# Altium schematic symbol library SVN_lib.SchLib: 165 symbols (part 2 of 2)
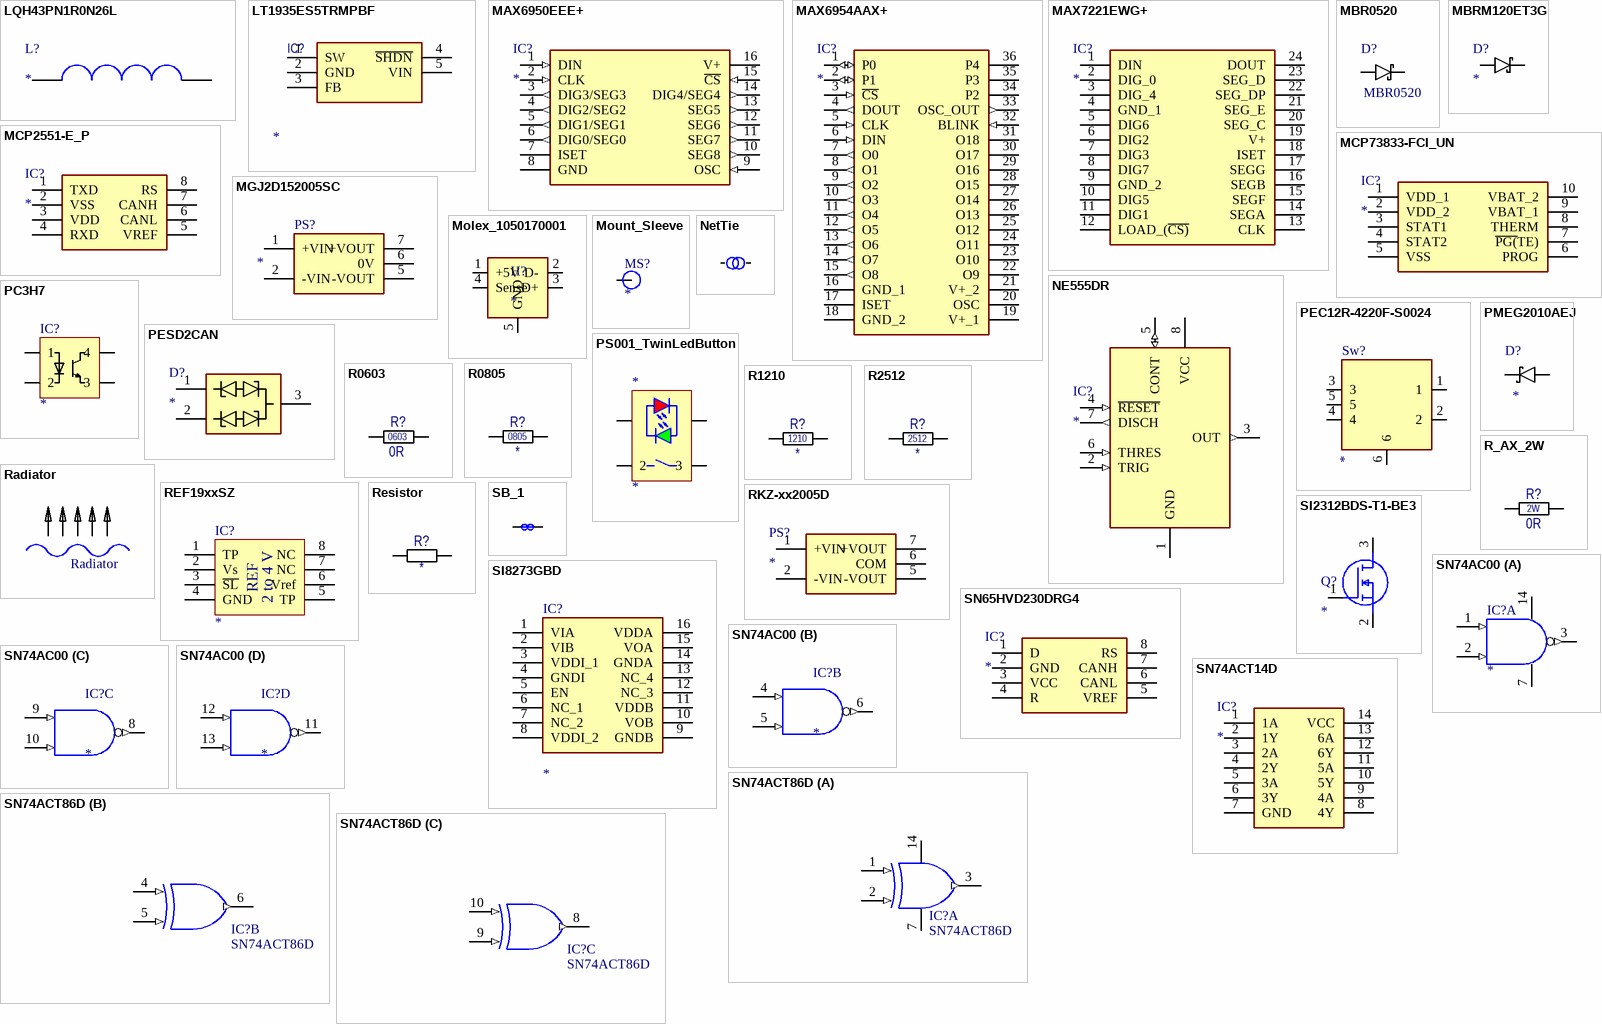
[diagram p6: symbols LQH43PN1R0N26L to SN74ACT86D]

## PESD2CAN
designator D?
PESD2CAN / CAN bus ESD protection diode; Manufacturer_Name: Nexperia; Manufacturer_Part_Number: PESD2CAN,215; Datasheet Link: http://de.rs-online.com/webdocs/0b4d/0900766b80b4dbb6.pdf; Height: 1.1mm; Mouser Part Number: 771-PESD2CAN-T/R; Mouser Price/Stock: https://www.mouser.co.uk/ProductDetail/Nexperia/PESD2CAN215?qs=LOCUfHb8d9sqg7TaLUP2JQ%3D%3D; Arrow Part Number: PESD2CAN,215; Arrow Price/Stock: https://www.arrow.com/en/products/pesd2can215/nexperia?region=nac
footprint SOT96P237X111-3N
pins: 1 CATHODE_1, 2 CATHODE_2, 3 COMMON_CATHODE

## PMEG2010AEJ
designator D?
Schottky Diode; Manufacturer_Name: Nexperia; Manufacturer_Part_Number: PMEG2010AEJ; Datasheet Link: https://datasheet.datasheetarchive.com/originals/distributors/Datasheets-20/DSA-380125.pdf; Height: 0.8mm; Mouser Part Number: N/A; Mouser Price/Stock: https://www.mouser.com/Search/Refine.aspx?Keyword=N%2FA
footprint SOD2512X80N
pins: 1 K, 2 A

## PS001_TwinLedButton
designator *
footprint PS001_TwinLedButton
pins: + 1, - 4, S 2, w 3

## R0603
designator R?, comment 0R
Resistor; Value: 0R; 0.1W: *
footprint R_0603 (Chip Resistor, EIA 0201, Metric 0603, Body 0.6 x 0.3mm, IPC Medium Density)
pins: 1, 2
1 alternate drawing of the same symbol
text: 0603

## R0805
designator R?
Resistor; Value: 0R; 0.1W: *
footprint R_0805 (Chip Resistor, EIA 0201, Metric 0603, Body 0.6 x 0.3mm, IPC Medium Density)
pins: 1, 2
1 alternate drawing of the same symbol
text: 0805

## R1210
designator R?
Resistor; Value: 0R; 0.1W: *
footprint R_1210(3532)
pins: 1, 2
1 alternate drawing of the same symbol
text: 1210

## R2512
designator R?
Resistor; Value: 0R; 0.1W: *
footprint R_2512(6232)
pins: 1, 2
1 alternate drawing of the same symbol
text: 2512

## R_AX_2W
designator R?, comment 0R
Resistor; 0.1W: *
footprint R_AX_2W_18mm
pins: 1, 2
1 alternate drawing of the same symbol
text: 2W

## Radiator
designator *
footprint Radiator-40x20x40
footprint Radiator-F_SK_489 (x100mm)

## REF19xxSZ
designator IC?
REF19xxS Voltage Reference, 2.048 to 4.096 Vout, Analog Devices
footprint SOIC127P600X175-8N
pins: 1 TP, 2 Vs, 3 ~{SL}, 4 GND, 5 TP, 6 Vref, 7 NC, 8 NC
1 alternate drawing of the same symbol
text: REF; 2 to 4 V

## Resistor
designator R?
Resistor; Value: *; 0.1W: *
footprint R_0603 (Chip Resistor, EIA 0201, Metric 0603, Body 0.6 x 0.3mm, IPC Medium Density)
pins: 1, 2
7 alternate drawings of the same symbol

## RKZ-xx2005D
designator PS?
The RKZ-xx2005D series features DC/DC converters which are especially designed for SiC mosfet / drivers. The modules are available with input voltages of 5, 12, 15, or 24VDC with two / asymmetric outputs of +20VDC and -5VDC. A special feature of this converter is output power / sharing: the RKZ-xx2005D can be used with equal power (asymmetrical current) or equal current / (asymmetrical power) loads. The modules offer 3kVDC or 4kVDC isolation. The operating / temperature range of -40C to +100°C (with derating) meets harsh environmental requirements.; Manufacturer_Name: RECOM Power; Manufacturer_Part_Number: RKZ-152005D; Datasheet Link: https://www.recom-power.com/pdf/Econoline/RKZ-xx2005D.pdf; Height: 10.7mm; Mouser Part Number: 919-RKZ-152005D; Mouser Price/Stock: https://www.mouser.com/Search/Refine.aspx?Keyword=919-RKZ-152005D; Arrow Part Number: RKZ-152005D; Arrow Price/Stock: http://www.arrow.com/en/products/rkz-152005d/recom
footprint RKZxx2005D (20/-5 DCDC)
pins: 1 +VIN, 2 -VIN, 5 -VOUT, 6 COM, 7 +VOUT

## SB_1
designator SB?  (value not drawn)  (net tie, no BOM)
footprint SB_1(E)
footprint SB_1(CO)
footprint SB_1(>>)
footprint NetTie
pins: 1, 2
1 alternate drawing of the same symbol

## SI2312BDS-T1-BE3
designator Q?
MOSFET (N-Channel); Manufacturer_Name: Vishay; Manufacturer_Part_Number: SI2312BDS-T1-BE3; Datasheet Link: https://www.mouser.in/datasheet/2/427/VISH_S_A0010924773_1-2571514.pdf; Height: 1.12mm; Mouser Part Number: 78-SI2312BDS-T1-BE3; Mouser Price/Stock: https://www.mouser.co.uk/ProductDetail/Vishay-Siliconix/SI2312BDS-T1-BE3?qs=CiayqK2gdcLWl7ngxjbeYA%3D%3D; Arrow Part Number: SI2312BDS-T1-BE3; Arrow Price/Stock: https://www.arrow.com/en/products/si2312bds-t1-be3/vishay?region=nac
footprint SOT95P237X112-3N
pins: 1 G, 2 S, 3 D

## SI8273GBD
designator IC?
Integrated Circuit; Manufacturer_Name: Silicon Labs; Manufacturer_Part_Number: SI8273GBD-IS1; Datasheet Link: https://www.silabs.com/documents/public/data-sheets/Si827x.pdf; Height: 1.75mm; Mouser Part Number: 634-SI8273GBD-IS1; Mouser Price/Stock: https://www.mouser.co.uk/ProductDetail/Silicon-Labs/SI8273GBD-IS1?qs=j6MGy4L9yX191qwyJw3Utg%3D%3D; Arrow Part Number: SI8273GBD-IS1; Arrow Price/Stock: https://www.arrow.com/en/products/si8273gbd-is1/silicon-labs
footprint SOIC127P600X175-16N
pins: 1 VIA, 2 VIB, 3 VDDI_1, 4 GNDI, 5 EN, 6 NC_1, 7 NC_2, 8 VDDI_2, 9 GNDB, 10 VOB, 11 VDDB, 12 NC_3, 13 NC_4, 14 GNDA, 15 VOA, 16 VDDA

## SN65HVD230DRG4
designator IC?
3.3 V CAN Transceiver with Standby Mode 8-SOIC -40 to 85; Manufacturer_Name: Texas Instruments; Manufacturer_Part_Number: SN65HVD230DRG4; Datasheet Link: http://www.ti.com/general/docs/suppproductinfo.tsp?distId=10&gotoUrl=http%3A%2F%2Fwww.ti.com%2Flit%2Fgpn%2Fsn65hvd230; Height: 1.75mm; Mouser Part Number: 595-SN65HVD230DRG4; Mouser Price/Stock: https://www.mouser.co.uk/ProductDetail/Texas-Instruments/SN65HVD230DRG4/?qs=QViXGNcIEAvg9uZlAursSA%3D%3D; Arrow Part Number: SN65HVD230DRG4; Arrow Price/Stock: https://www.arrow.com/en/products/sn65hvd230drg4/texas-instruments
footprint SOIC127P600X175-8N
pins: 1 D, 2 GND, 3 VCC, 4 R, 5 VREF, 6 CANL, 7 CANH, 8 RS

## SN74AC00
designator IC?
AC00 devices contain four independent 2-input NAND gates; Manufacturer_Name: Texas Instruments; Manufacturer_Part_Number: SN74AC00PWE4; Datasheet Link: https://www.ti.com/lit/gpn/sn74ac00; Height: 1.2mm; Mouser Part Number: 595-SN74AC00PWE4; Mouser Price/Stock: https://www.mouser.co.uk/ProductDetail/Texas-Instruments/SN74AC00PWE4?qs=pdM4geFiyZSDjwSj6QGp9A%3D%3D; Arrow Part Number: SN74AC00PWE4; Arrow Price/Stock: https://www.arrow.com/en/products/sn74ac00pwe4/texas-instruments
footprint SOP65P640X120-14N
part A pins: 1 A (in), 2 B (in), 3 ~{O} (out), 7 GND (power), 14 VCC (power)
part B pins: 4 A (in), 5 B (in), 6 ~{O} (out)
part C pins: 8 ~{O} (out), 9 A (in), 10 B (in)
part D pins: 11 ~{O} (out), 12 A (in), 13 B (in)

## SN74ACT14D
designator IC?
Integrated Circuit; Manufacturer_Name: Texas Instruments; Manufacturer_Part_Number: SN74ACT14D; Datasheet Link: http://www.ti.com/lit/ds/symlink/sn74act14.pdf; Height: 1.75mm; Mouser Part Number: 595-SN74ACT14D; Mouser Price/Stock: https://www.mouser.co.uk/ProductDetail/Texas-Instruments/SN74ACT14D?qs=dQbkqP7qjaaVN%252BaQ1SflpA%3D%3D; Arrow Part Number: SN74ACT14D; Arrow Price/Stock: https://www.arrow.com/en/products/sn74act14d/texas-instruments
footprint SOIC127P600X175-14N
pins: 1 1A, 2 1Y, 3 2A, 4 2Y, 5 3A, 6 3Y, 7 GND, 8 4Y, 9 4A, 10 5Y, 11 5A, 12 6Y, 13 6A, 14 VCC

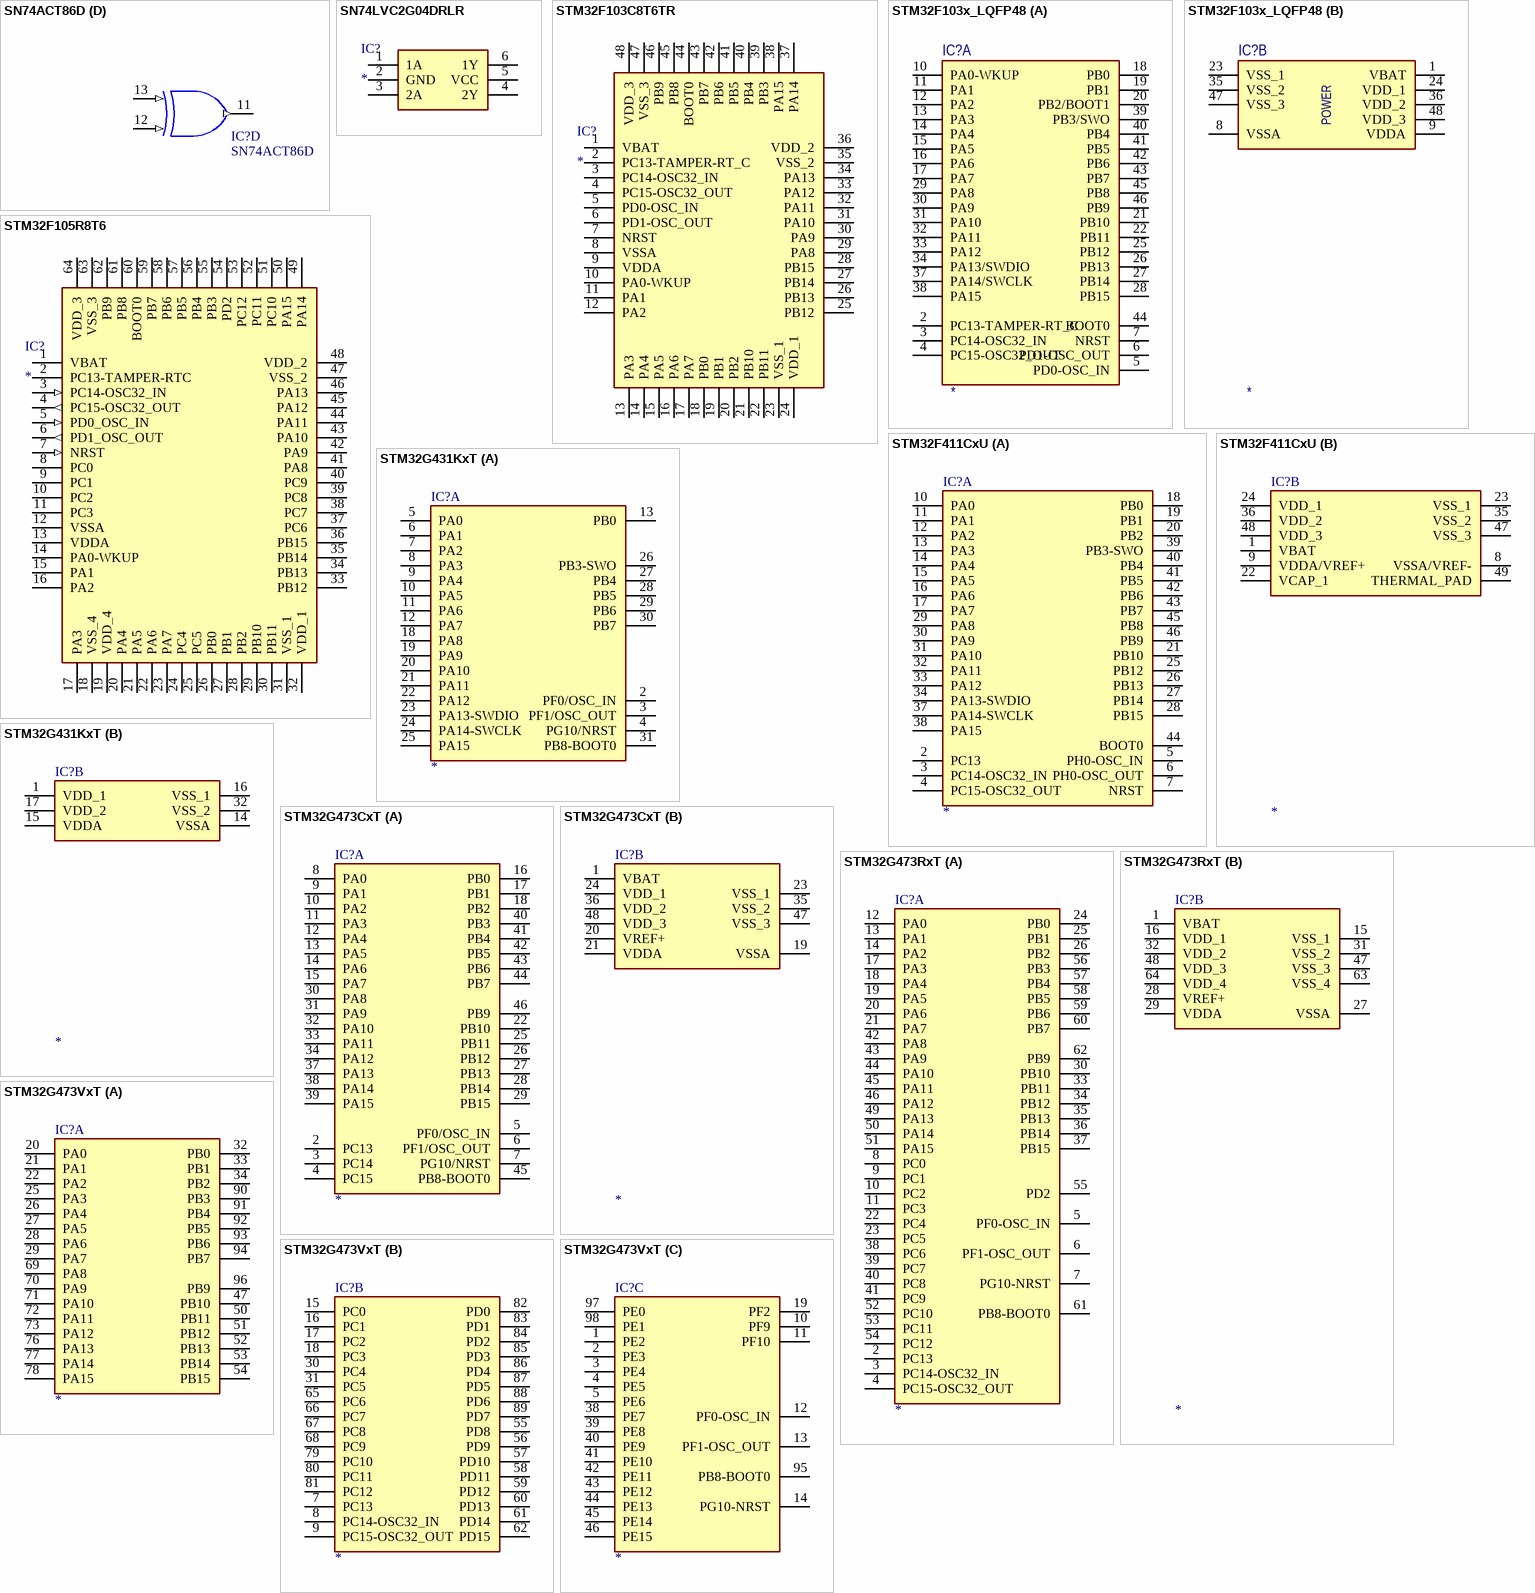
[diagram p4: symbols SN74ACT86D to STM32G473VxT]

## SN74ACT86D
designator IC?
ACT86 devices are quadruple 2-input exclusive-OR gates; Part Description: Quadruple 2-Input Positive-NAND Gates; Manufacturer: TEXAS INSTRUMENTS; Manufacturer Part Number: SN74AC00PW; Table: Standard Logic; Part Number: SN74ACT86D; Component Kind: Standard; Component Type: Standard; Device: SN74ACT86D; Footprint: SOP65P640X120-14N; PackageDescription: SOP, 14-Leads, Body 5.1x4.5mm (max), Pitch 0.65mm, IPC Medium Density; Pin Count: 14; Case: TSSOP14; Mounted: Yes; Socket: No; SMD: Yes; ComponentHeight: 1.2mm; Author: CERN DEM JLC; HelpURL: \\cern.ch\dfs\Applications\Altium\Datasheets\SN74AC00PW.pdf; CreateDate: 18.12.2013; LatestRevisionDate: 18.12.2013
footprint SOIC127P600X175-14N
part A pins: 1 A (in), 2 B (in), 3 ~{O} (out), 7 GND (power), 14 VCC (power)
part B pins: 4 A (in), 5 B (in), 6 ~{O} (out)
part C pins: 8 ~{O} (out), 9 B (in), 10 A (in)
part D pins: 11 ~{O} (out), 12 B (in), 13 A (in)

## SN74LVC2G04DRLR
designator IC?
2-ch, 1.65-V to 5.5-V inverters; Manufacturer_Name: Texas Instruments; Manufacturer_Part_Number: SN74LVC2G04DRLR; Datasheet Link: http://www.ti.com/lit/gpn/sn74lvc2g04; Height: 0.6mm; Mouser Part Number: 595-SN74LVC2G04DRLR; Mouser Price/Stock: https://www.mouser.co.uk/ProductDetail/Texas-Instruments/SN74LVC2G04DRLR?qs=pajgIaoyDUgGT9cUBVgEUw%3D%3D; Arrow Part Number: SN74LVC2G04DRLR; Arrow Price/Stock: https://www.arrow.com/en/products/sn74lvc2g04drlr/texas-instruments
footprint SOTFL50P160X60-6N
footprint SOT23-6
pins: 1 1A, 2 GND, 3 2A, 4 2Y, 5 VCC, 6 1Y
1 alternate drawing of the same symbol

## STM32F103C8T6TR
designator IC?
Integrated Circuit; Manufacturer_Name: STMicroelectronics; Manufacturer_Part_Number: STM32F103C8T6TR; Datasheet Link: http://media.digikey.com/pdf/Data%20Sheets/ST%20Microelectronics%20PDFS/STM32F103x8,B.pdf; Height: 1.6mm; Mouser Part Number: 511-STM32F103C8T6TR; Mouser Price/Stock: https://www.mouser.co.uk/ProductDetail/STMicroelectronics/STM32F103C8T6TR?qs=5HwTSiuA5HDxFj62n06yag%3D%3D; Arrow Part Number: STM32F103C8T6TR; Arrow Price/Stock: https://www.arrow.com/en/products/stm32f103c8t6tr/stmicroelectronics
footprint QFP50P900X900X160-48N
pins: 1 VBAT, 2 PC13-TAMPER-RT_C, 3 PC14-OSC32_IN, 4 PC15-OSC32_OUT, 5 PD0-OSC_IN, 6 PD1-OSC_OUT, 7 NRST, 8 VSSA, 9 VDDA, 10 PA0-WKUP, 11 PA1, 12 PA2, 13 PA3, 14 PA4, 15 PA5, 16 PA6, 17 PA7, 18 PB0, 19 PB1, 20 PB2, 21 PB10, 22 PB11, 23 VSS_1, 24 VDD_1, 25 PB12, 26 PB13, 27 PB14, 28 PB15, 29 PA8, 30 PA9, 31 PA10, 32 PA11, 33 PA12, 34 PA13, 35 VSS_2, 36 VDD_2, 37 PA14, 38 PA15, 39 PB3, 40 PB4, 41 PB5, 42 PB6, 43 PB7, 44 BOOT0, 45 PB8, 46 PB9, 47 VSS_3, 48 VDD_3
1 alternate drawing of the same symbol

## STM32F103x_LQFP48
designator IC?
footprint QFP50P900X900X160-48N
part A pins: 2 PC13-TAMPER-RT_C, 3 PC14-OSC32_IN, 4 PC15-OSC32_OUT, 5 PD0-OSC_IN, 6 PD1-OSC_OUT, 7 NRST, 10 PA0-WKUP, 11 PA1, 12 PA2, 13 PA3, 14 PA4, 15 PA5, 16 PA6, 17 PA7, 18 PB0, 19 PB1, 20 PB2/BOOT1, 21 PB10, 22 PB11, 25 PB12, 26 PB13, 27 PB14, 28 PB15, 29 PA8, 30 PA9, 31 PA10, 32 PA11, 33 PA12, 34 PA13/SWDIO, 37 PA14/SWCLK, 38 PA15, 39 PB3/SWO, 40 PB4, 41 PB5, 42 PB6, 43 PB7, 44 BOOT0, 45 PB8, 46 PB9
part B pins: 1 VBAT, 8 VSSA, 9 VDDA, 23 VSS_1, 24 VDD_1, 35 VSS_2, 36 VDD_2, 47 VSS_3, 48 VDD_3
part B text: POWER

## STM32F105R8T6
designator IC?
Integrated Circuit; Manufacturer_Name: STMicroelectronics; Manufacturer_Part_Number: STM32F105R8T6; Datasheet Link: http://www.st.com/st-web-ui/static/active/en/resource/technical/document/datasheet/CD00220364.pdf; Height: 1.6mm; Mouser Part Number: 511-STM32F105R8T6; Mouser Price/Stock: https://www.mouser.co.uk/ProductDetail/STMicroelectronics/STM32F105R8T6/?qs=1XJIe8X6XT24MwoK4mjh%2Fg%3D%3D; Arrow Part Number: STM32F105R8T6; Arrow Price/Stock: https://www.arrow.com/en/products/stm32f105r8t6/stmicroelectronics
footprint QFP50P1200X1200X160-64N
pins: 1 VBAT, 2 PC13-TAMPER-RTC, 3 PC14-OSC32_IN (in), 4 PC15-OSC32_OUT (out), 5 PD0_OSC_IN (in), 6 PD1_OSC_OUT (out), 7 NRST (in), 8 PC0, 9 PC1, 10 PC2, 11 PC3, 12 VSSA (power), 13 VDDA (power), 14 PA0-WKUP, 15 PA1, 16 PA2, 17 PA3, 18 VSS_4 (power), 19 VDD_4 (power), 20 PA4, 21 PA5, 22 PA6, 23 PA7, 24 PC4, 25 PC5, 26 PB0, 27 PB1, 28 PB2, 29 PB10, 30 PB11, 31 VSS_1 (power), 32 VDD_1 (power), 33 PB12, 34 PB13, 35 PB14, 36 PB15, 37 PC6, 38 PC7, 39 PC8, 40 PC9, 41 PA8, 42 PA9, 43 PA10, 44 PA11, 45 PA12, 46 PA13, 47 VSS_2 (power), 48 VDD_2 (power), 49 PA14, 50 PA15, 51 PC10, 52 PC11, 53 PC12, 54 PD2, 55 PB3, 56 PB4, 57 PB5, 58 PB6, 59 PB7, 60 BOOT0, 61 PB8, 62 PB9, 63 VSS_3 (power), 64 VDD_3 (power)

## STM32F411CxU
designator IC?
Integrated Circuit; Manufacturer_Name: STMicroelectronics; Manufacturer_Part_Number: STM32F411CEU6; Datasheet Link: http://www.st.com/content/ccc/resource/technical/document/datasheet/b3/a5/46/3b/b4/e5/4c/85/DM00115249.pdf/files/DM00115249.pdf/jcr:content/translations/en.DM00115249.pdf; Height: 0.6mm; Mouser Part Number: 511-STM32F411CEU6; Mouser Price/Stock: https://www.mouser.co.uk/ProductDetail/STMicroelectronics/STM32F411CEU6?qs=pjMTYa9MTGV3ou31YBFa3g%3D%3D; Arrow Part Number: STM32F411CEU6; Arrow Price/Stock: https://www.arrow.com/en/products/stm32f411ceu6/stmicroelectronics?utm_currency=USD&region=nac
footprint UFQFPN48-49N-D
part A pins: 2 PC13, 3 PC14-OSC32_IN, 4 PC15-OSC32_OUT, 5 PH0-OSC_IN, 6 PH0-OSC_OUT, 7 NRST, 10 PA0, 11 PA1, 12 PA2, 13 PA3, 14 PA4, 15 PA5, 16 PA6, 17 PA7, 18 PB0, 19 PB1, 20 PB2, 21 PB10, 25 PB12, 26 PB13, 27 PB14, 28 PB15, 29 PA8, 30 PA9, 31 PA10, 32 PA11, 33 PA12, 34 PA13-SWDIO, 37 PA14-SWCLK, 38 PA15, 39 PB3-SWO, 40 PB4, 41 PB5, 42 PB6, 43 PB7, 44 BOOT0, 45 PB8, 46 PB9
part B pins: 1 VBAT, 8 VSSA/VREF-, 9 VDDA/VREF+, 22 VCAP_1, 23 VSS_1, 24 VDD_1, 35 VSS_2, 36 VDD_2, 47 VSS_3, 48 VDD_3, 49 THERMAL_PAD

## STM32G431KxT
designator IC?
Integrated Circuit; Manufacturer_Name: STMicroelectronics; Manufacturer_Part_Number: STM32G473CCT3; Datasheet Link: https://cz.mouser.com/datasheet/2/389/dm00528822-1799294.pdf; Height: 1.6mm; Mouser Part Number: 511-STM32G473CCT3; Mouser Price/Stock: https://www.mouser.co.uk/ProductDetail/STMicroelectronics/STM32G473CCT3?qs=sPbYRqrBIVmZ4FukD7XWCg%3D%3D
footprint LQFP32-32N_STM
part A pins: 2 PF0/OSC_IN, 3 PF1/OSC_OUT, 4 PG10/NRST, 5 PA0, 6 PA1, 7 PA2, 8 PA3, 9 PA4, 10 PA5, 11 PA6, 12 PA7, 13 PB0, 18 PA8, 19 PA9, 20 PA10, 21 PA11, 22 PA12, 23 PA13-SWDIO, 24 PA14-SWCLK, 25 PA15, 26 PB3-SWO, 27 PB4, 28 PB5, 29 PB6, 30 PB7, 31 PB8-BOOT0
part B pins: 1 VDD_1, 14 VSSA, 15 VDDA, 16 VSS_1, 17 VDD_2, 32 VSS_2

## STM32G473CxT
designator IC?
Integrated Circuit; Manufacturer_Name: STMicroelectronics; Manufacturer_Part_Number: STM32G473CCT3; Datasheet Link: https://cz.mouser.com/datasheet/2/389/dm00528822-1799294.pdf; Height: 1.6mm; Mouser Part Number: 511-STM32G473CCT3; Mouser Price/Stock: https://www.mouser.co.uk/ProductDetail/STMicroelectronics/STM32G473CCT3?qs=sPbYRqrBIVmZ4FukD7XWCg%3D%3D
footprint QFP50P900X900X160-48N
footprint LQFP48-48N_STM
part A pins: 2 PC13, 3 PC14, 4 PC15, 5 PF0/OSC_IN, 6 PF1/OSC_OUT, 7 PG10/NRST, 8 PA0, 9 PA1, 10 PA2, 11 PA3, 12 PA4, 13 PA5, 14 PA6, 15 PA7, 16 PB0, 17 PB1, 18 PB2, 22 PB10, 25 PB11, 26 PB12, 27 PB13, 28 PB14, 29 PB15, 30 PA8, 31 PA9, 32 PA10, 33 PA11, 34 PA12, 37 PA13, 38 PA14, 39 PA15, 40 PB3, 41 PB4, 42 PB5, 43 PB6, 44 PB7, 45 PB8-BOOT0, 46 PB9
part B pins: 1 VBAT, 19 VSSA, 20 VREF+, 21 VDDA, 23 VSS_1, 24 VDD_1, 35 VSS_2, 36 VDD_2, 47 VSS_3, 48 VDD_3

## STM32G473RxT
designator IC?
Integrated Circuit; Manufacturer_Name: STMicroelectronics; Manufacturer_Part_Number: STM32G473RET6; Datasheet Link: https://www.st.com/resource/en/datasheet/stm32g473re.pdf; Height: 1.6mm; Mouser Part Number: 511-STM32G473RET6; Mouser Price/Stock: https://www.mouser.co.uk/ProductDetail/STMicroelectronics/STM32G473RET6?qs=uwxL4vQweFNyY0B3QRttcw%3D%3D; Arrow Part Number: STM32G473RET6; Arrow Price/Stock: https://www.arrow.com/en/products/stm32g473ret6/stmicroelectronics?region=nac
footprint QFP50P1200X1200X160-64N
footprint LQFP64-64N_STM
part A pins: 2 PC13, 3 PC14-OSC32_IN, 4 PC15-OSC32_OUT, 5 PF0-OSC_IN, 6 PF1-OSC_OUT, 7 PG10-NRST, 8 PC0, 9 PC1, 10 PC2, 11 PC3, 12 PA0, 13 PA1, 14 PA2, 17 PA3, 18 PA4, 19 PA5, 20 PA6, 21 PA7, 22 PC4, 23 PC5, 24 PB0, 25 PB1, 26 PB2, 30 PB10, 33 PB11, 34 PB12, 35 PB13, 36 PB14, 37 PB15, 38 PC6, 39 PC7, 40 PC8, 41 PC9, 42 PA8, 43 PA9, 44 PA10, 45 PA11, 46 PA12, 49 PA13, 50 PA14, 51 PA15, 52 PC10, 53 PC11, 54 PC12, 55 PD2, 56 PB3, 57 PB4, 58 PB5, 59 PB6, 60 PB7, 61 PB8-BOOT0, 62 PB9
part B pins: 1 VBAT, 15 VSS_1, 16 VDD_1, 27 VSSA, 28 VREF+, 29 VDDA, 31 VSS_2, 32 VDD_2, 47 VSS_3, 48 VDD_3, 63 VSS_4, 64 VDD_4

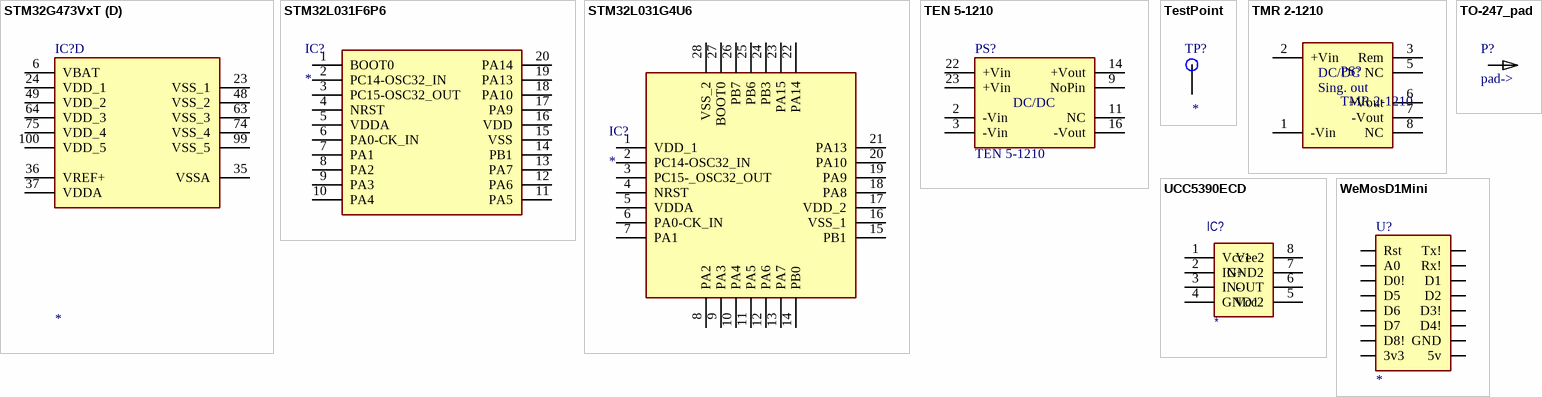
[diagram p5: symbols STM32G473VxT to WeMosD1Mini]

## STM32G473VxT
designator IC?
Integrated Circuit; Manufacturer_Name: STMicroelectronics; Manufacturer_Part_Number: STM32G473VET6; Datasheet Link: https://www.st.com/resource/en/datasheet/stm32g473cb.pdf; Height: 1.6mm; Mouser Part Number: 511-STM32G473VET6; Mouser Price/Stock: https://www.mouser.co.uk/ProductDetail/STMicroelectronics/STM32G473VET6?qs=PzGy0jfpSMuOfCPr1WW9ZQ%3D%3D; Arrow Part Number: STM32G473VET6; Arrow Price/Stock: https://www.arrow.com/en/products/stm32g473vet6/stmicroelectronics?region=nac
footprint QFP50P1600X1600X160-100N
footprint LQFP100-100N_STM
part A pins: 20 PA0, 21 PA1, 22 PA2, 25 PA3, 26 PA4, 27 PA5, 28 PA6, 29 PA7, 32 PB0, 33 PB1, 34 PB2, 47 PB10, 50 PB11, 51 PB12, 52 PB13, 53 PB14, 54 PB15, 69 PA8, 70 PA9, 71 PA10, 72 PA11, 73 PA12, 76 PA13, 77 PA14, 78 PA15, 90 PB3, 91 PB4, 92 PB5, 93 PB6, 94 PB7, 96 PB9
part B pins: 7 PC13, 8 PC14-OSC32_IN, 9 PC15-OSC32_OUT, 15 PC0, 16 PC1, 17 PC2, 18 PC3, 30 PC4, 31 PC5, 55 PD8, 56 PD9, 57 PD10, 58 PD11, 59 PD12, 60 PD13, 61 PD14, 62 PD15, 65 PC6, 66 PC7, 67 PC8, 68 PC9, 79 PC10, 80 PC11, 81 PC12, 82 PD0, 83 PD1, 84 PD2, 85 PD3, 86 PD4, 87 PD5, 88 PD6, 89 PD7
part C pins: 1 PE2, 2 PE3, 3 PE4, 4 PE5, 5 PE6, 10 PF9, 11 PF10, 12 PF0-OSC_IN, 13 PF1-OSC_OUT, 14 PG10-NRST, 19 PF2, 38 PE7, 39 PE8, 40 PE9, 41 PE10, 42 PE11, 43 PE12, 44 PE13, 45 PE14, 46 PE15, 95 PB8-BOOT0, 97 PE0, 98 PE1
part D pins: 6 VBAT, 23 VSS_1, 24 VDD_1, 35 VSSA, 36 VREF+, 37 VDDA, 48 VSS_2, 49 VDD_2, 63 VSS_3, 64 VDD_3, 74 VSS_4, 75 VDD_4, 99 VSS_5, 100 VDD_5

## STM32L031F6P6
designator IC?
Integrated Circuit; Manufacturer_Name: STMicroelectronics; Manufacturer_Part_Number: STM32L031F6P6; Datasheet Link: http://www.st.com/content/ccc/resource/technical/document/datasheet/aa/5d/77/ad/1a/59/4a/b9/DM00140359.pdf/files/DM00140359.pdf/jcr:content/translations/en.DM00140359.pdf; Height: 1.2mm; Mouser Part Number: 511-STM32L031F6P6; Mouser Price/Stock: https://www.mouser.co.uk/ProductDetail/STMicroelectronics/STM32L031F6P6/?qs=dTJS0cRn7ohDt6e1EJh76Q%3D%3D; Arrow Part Number: STM32L031F6P6; Arrow Price/Stock: https://www.arrow.com/en/products/stm32l031f6p6/stmicroelectronics
footprint SOP65P640X120-20N
pins: 1 BOOT0, 2 PC14-OSC32_IN, 3 PC15-OSC32_OUT, 4 NRST, 5 VDDA, 6 PA0-CK_IN, 7 PA1, 8 PA2, 9 PA3, 10 PA4, 11 PA5, 12 PA6, 13 PA7, 14 PB1, 15 VSS, 16 VDD, 17 PA9, 18 PA10, 19 PA13, 20 PA14

## STM32L031G4U6
designator IC?
Integrated Circuit; Manufacturer_Name: STMicroelectronics; Manufacturer_Part_Number: STM32L031G4U6; Datasheet Link: https://www.arrow.com/en/products/stm32l031g4u6/stmicroelectronics; Height: 0.6mm; Mouser Part Number: 511-STM32L031G4U6; Mouser Price/Stock: https://www.mouser.co.uk/ProductDetail/STMicroelectronics/STM32L031G4U6?qs=dTJS0cRn7og%2FRNJGwymdwA%3D%3D; Arrow Part Number: STM32L031G4U6; Arrow Price/Stock: https://www.arrow.com/en/products/stm32l031g4u6/stmicroelectronics
footprint QFN50P400X400X60-28N-D
pins: 1 VDD_1, 2 PC14-OSC32_IN, 3 PC15-_OSC32_OUT, 4 NRST, 5 VDDA, 6 PA0-CK_IN, 7 PA1, 8 PA2, 9 PA3, 10 PA4, 11 PA5, 12 PA6, 13 PA7, 14 PB0, 15 PB1, 16 VSS_1, 17 VDD_2, 18 PA8, 19 PA9, 20 PA10, 21 PA13, 22 PA14, 23 PA15, 24 PB3, 25 PB6, 26 PB7, 27 BOOT0, 28 VSS_2

## TEN 5-1210
designator PS?
Traco Power DC/DC Converter TEN 5 Series, 6 Watt
footprint TEN_5_Double (DC/DC Converters  TEN 5 Series, 6 Watt)
footprint TEN_5_Single (DC/DC Converters  TEN 5 Series, 6 Watt)
pins: 2 -Vin (power), 3 -Vin (power), 9 NoPin (power), 11 NC (power), 14 +Vout (power), 16 -Vout (power), 22 +Vin (power), 23 +Vin (power)
1 alternate drawing of the same symbol
text: DC/DC

## TestPoint
designator TP?
footprint TestPoint
pins: 1

## TMR 2-1210
designator PS?
Traco Power DC/DC Converter TMR 2 Series, 2 Watt
footprint TMR_2 (DC/DC Converters  TMR 2 Series, 2 Watt)
pins: 1 -Vin (power), 2 +Vin (power), 3 Rem (power), 5 NC (power), 6 +Vout (power), 7 -Vout (power), 8 NC (power)
1 alternate drawing of the same symbol
text: DC/DC; Sing. out

## TO-247_pad
designator P?, comment pad->
footprint TO-247 (sigle pad)
pins: 1 "pad"

## UCC5390ECD
designator IC?
UCC5390 10A/10A Single-Channel Isolated Gate Driver for Bipolar Supply (E) or With Split Output (S) / Корпус: 8-SOIC (0.154", 3.90mm Width)
footprint SOIC127P600X175-8N_ISO_DRV
pins: 1 Vcc1, 2 IN+, 3 IN-, 4 GND1, 5 Vcc2, 6 OUT, 7 GND2, 8 Vee2
1 alternate drawing of the same symbol

## WeMosD1Mini
designator U?
WeMosD1Mini; System: Connector
footprint WeMosD1Mini
pins: 1 Rst, 2 A0, 3 D0! "HIGH at boot", 4 D5 "SCLK", 5 D6 "MISO", 6 D7 "MOSI", 7 D8! "CS, Boot fails if HIGH", 8 3v3, 9 5v, 10 GND, 11 D4! "HIGH at boot, LED, boot fails if LOW", 12 D3! "boot fails if LOW", 13 D2 "SDA", 14 D1 "SCL", 15 Rx! "HIGH at boot", 16 Tx! "HIGH at boot, debug output at boot, boot fails if LOW"
1 alternate drawing of the same symbol